# EAGLE library part TRANSFORMER_TH_V1 (library dragCustom)
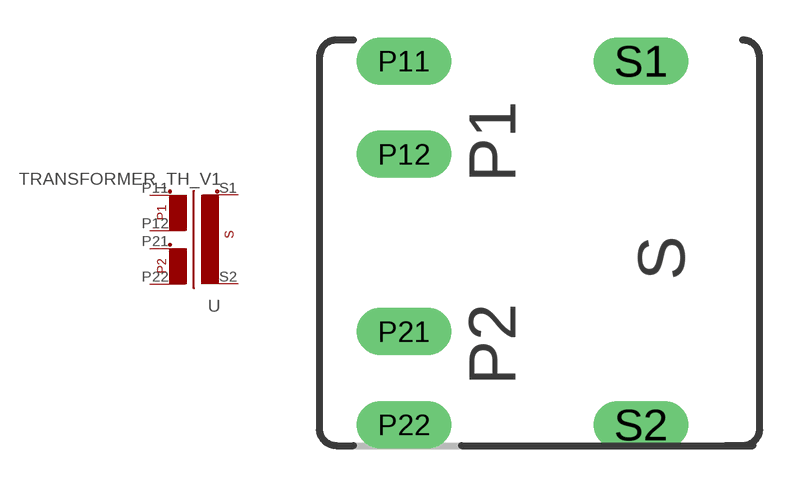
[diagram p13: symbol with the pads of TRANSFORMER_TH_V1; footprint TRANSFORMER_TH_V1]

Designator prefix -

## TRANSFORMER_TH_V1  [TRANSFORMER_TH_V1]
P11  P11  pas
P12  P12  pas
P21  P21  pas
P22  P22  pas
S1  S1  pas
S2  S2  pas

## Footprint TRANSFORMER_TH_V1 (pad centres in mm)
drill 0.9 pad 1.778 long: P11 -5.08,6.83; P12 -5.08,3.33; P21 -5.08,-3.33; P22 -5.08,-6.83; S1 3.81,6.83; S2 3.81,-6.83